# Altium integrated library Linear Technology Power Management Switching Regulator LTC1174-LTC3901.IntLib: 2647 symbols (part 35 of 364)
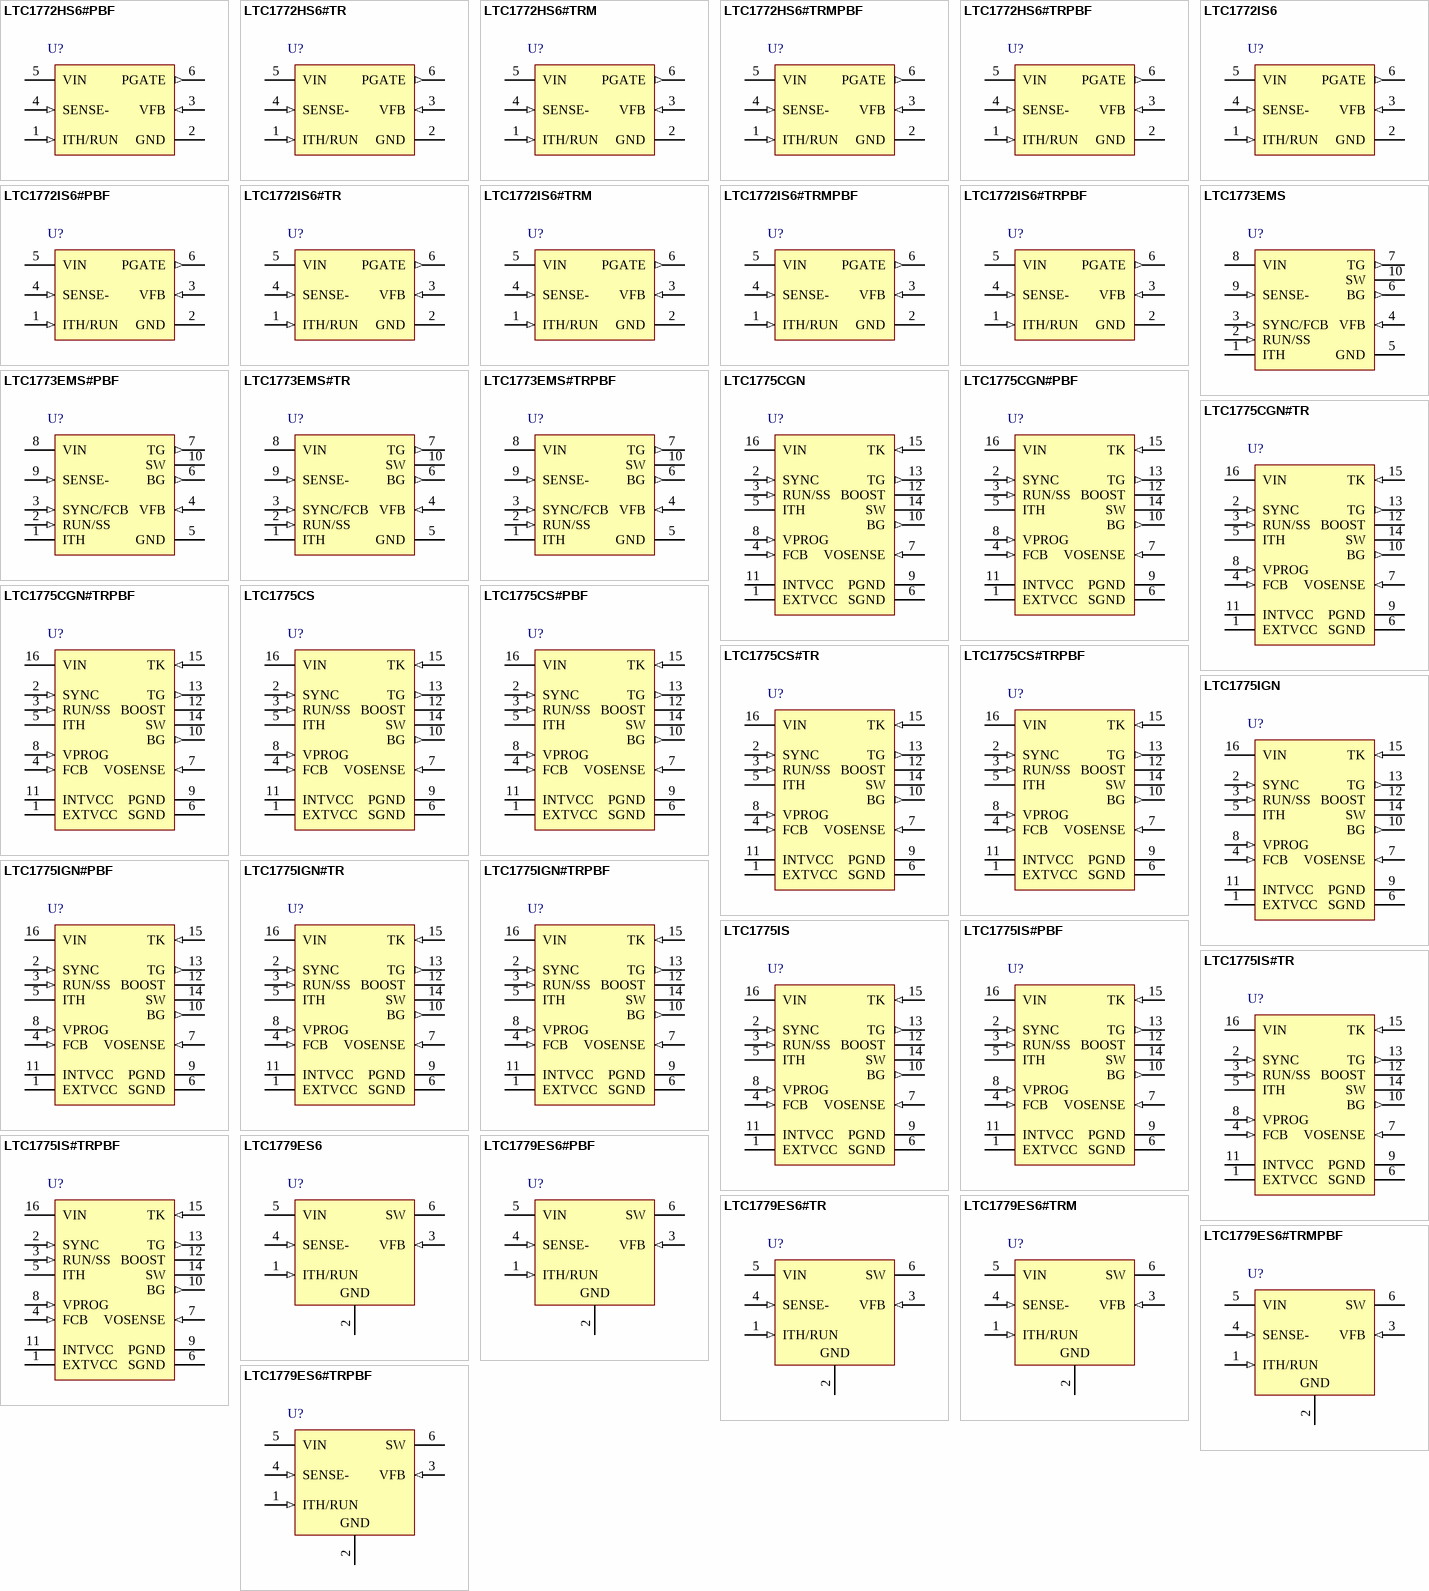
[diagram p233: symbols LTC1772HS6#PBF to LTC1779ES6#TRPBF]

## LTC1775CS#TR
designator U?
High Power No Rsense(TM) Current Mode Synchronous Step-Down Switching Regulator, 16-pin SOP (S-16), 0 to 70 degC, Tape and Reel; Manufacturer: Linear Technology; PartNumber: LTC1775CS#TR; Frequency Sync Range: 150kHz - 225kHz; Number of Outputs: 1; PackageVersion: Rev. G, 05/2012; PackageReference: S-16; PackageDescription: 16-Pin Plastic Small Outline, Body 9.9 x 3.9 mm, Pitch 1.27 mm; Supplier 1: Digi-Key; Supplier Part Number 1: LTC1775CS#TR-ND; Packing: Tape and Reel; RoHS: FALSE; Mounting Technology: Surface Mount; ComponentLink1Description: Manufacturer URL; ComponentLink1URL: http://www.linear.com/; ComponentLink2Description: Datasheet; ComponentLink2URL: http://cds.linear.com/docs/en/datasheet/1775f.pdf; ComponentLink3Description: Package Specification; ComponentLink3URL: http://cds.linear.com/docs/en/packaging/S16%2005-08-1610%20Rev%20G.pdf
footprint LT-S-16_N (SOP, 16-Leads, Body 10x4mm, Pitch 1.27mm, IPC Medium Density)
footprint LT-S-16_L (SOP, 16-Leads, Body 10x4mm, Pitch 1.27mm, IPC High Density)
footprint LT-S-16_M (SOP, 16-Leads, Body 10x4mm, Pitch 1.27mm, IPC Low Density)
pins: 1 EXTVCC (power) "INTVCC Switch Input. When the EXTVCC voltage is above 4.7V, the switch closes and supplies INTVCC power from EXTVCC. Do not exceed 7V at this pin.", 2 SYNC (in) "Synchronization Input for Internal Oscillator. The oscillator will nominally run at 150kHz when open, 225kHz when tied above 1.2V, and will lock over a 1.5:1 clock frequency range.", 3 RUN/SS (in) "Run Control and Soft Start Input. A capacitor to ground at this pin sets the ramp time to full current output (approximately 1s/uF). Forcing this pin below 1.4V shuts down the device.", 4 FCB (in) "Forced Continuous Input. Tie this pin to ground to force synchronous operation at low load currents, to a resistive divider from the secondary output when using a secondary winding, or to INTVCC to enable Burst Mode (See Datasheet)", 5 ITH "Error Amplifier Compensation Point. The current comparator threshold increases with this control voltage, forcing inductor current to be roughly proportional to VITH. Nominal voltage range for this pin is 0V to 2.4V.", 6 SGND (power) "Signal Ground. Connect to the (-) terminal of COUT.", 7 VOSENSE (in) "Output Voltage Sense. Feedback input from the remotely sensed output voltage or from an external resistive divider across the output.", 8 VPROG (in) "Output Voltage Programming. When VOSENSE is connected to the output, VPROG < 0.8V selects a 3.3V output and VPROG > 3.5V selects a 5V output.Leaving VPROG open allows the output voltage to be set by an external resistive (See Datasheet)", 9 PGND (power) "Driver Power Ground. Connects to the source of the bottom N channel MOSFET, the (-) terminal of CVCC and the (-) terminal of CIN.", 10 BG (out) "Bottom Gate Drive. Drives the gate of the bottom N-channel MOSFET between ground and INTVCC.", 11 INTVCC (power) "Internal 5.2V Regulator Output. The driver and control circuits are powered from this voltage. Decouple this pin to power ground with a minimum of 4.7uF tantalum or other low ESR capacitor.", 12 BOOST "Topside Floating Driver Supply. The (+) terminal of the bootstrap capacitor connects here. This pin swings from a Schottky diode drop below INTVCC to VIN + INTVCC.", 13 TG (out) "Top Gate Drive. Drives the top N-channel MOSFET with a voltage swing equal to INTVCC superimposed on the switch node voltage.", 14 SW "Switch Node. The (-) terminal of the bootstrap capacitor connects here. This pin swings from a diode drop below ground up to VIN.", 15 TK (in) "Top MOSFET Kelvin Sense. MOSFET VDS sensing requires this pin to be routed to the drain of the top MOSFET separately from VIN.", 16 VIN (power) "Main Supply Input. Decouple this pin to ground with an RC filter (1ohm, 0.1uF) for applications above 3A."

## LTC1775CS#TRPBF
designator U?
High Power No Rsense(TM) Current Mode Synchronous Step-Down Switching Regulator, 16-pin SOP (S-16), 0 to 70 degC, Pb-Free, Tape and Reel; Manufacturer: Linear Technology; PartNumber: LTC1775CS#TRPBF; Frequency Sync Range: 150kHz - 225kHz; Number of Outputs: 1; PackageVersion: Rev. G, 05/2012; PackageReference: S-16; PackageDescription: 16-Pin Plastic Small Outline, Body 9.9 x 3.9 mm, Pitch 1.27 mm; Supplier 1: Digi-Key; Supplier Part Number 1: LTC1775CS#TRPBF-ND; Packing: Tape and Reel; RoHS: TRUE; Mounting Technology: Surface Mount; ComponentLink1Description: Manufacturer URL; ComponentLink1URL: http://www.linear.com/; ComponentLink2Description: Datasheet; ComponentLink2URL: http://cds.linear.com/docs/en/datasheet/1775f.pdf; ComponentLink3Description: Package Specification; ComponentLink3URL: http://cds.linear.com/docs/en/packaging/S16%2005-08-1610%20Rev%20G.pdf
footprint LT-S-16_N (SOP, 16-Leads, Body 10x4mm, Pitch 1.27mm, IPC Medium Density)
footprint LT-S-16_L (SOP, 16-Leads, Body 10x4mm, Pitch 1.27mm, IPC High Density)
footprint LT-S-16_M (SOP, 16-Leads, Body 10x4mm, Pitch 1.27mm, IPC Low Density)
pins: 1 EXTVCC (power) "INTVCC Switch Input. When the EXTVCC voltage is above 4.7V, the switch closes and supplies INTVCC power from EXTVCC. Do not exceed 7V at this pin.", 2 SYNC (in) "Synchronization Input for Internal Oscillator. The oscillator will nominally run at 150kHz when open, 225kHz when tied above 1.2V, and will lock over a 1.5:1 clock frequency range.", 3 RUN/SS (in) "Run Control and Soft Start Input. A capacitor to ground at this pin sets the ramp time to full current output (approximately 1s/uF). Forcing this pin below 1.4V shuts down the device.", 4 FCB (in) "Forced Continuous Input. Tie this pin to ground to force synchronous operation at low load currents, to a resistive divider from the secondary output when using a secondary winding, or to INTVCC to enable Burst Mode (See Datasheet)", 5 ITH "Error Amplifier Compensation Point. The current comparator threshold increases with this control voltage, forcing inductor current to be roughly proportional to VITH. Nominal voltage range for this pin is 0V to 2.4V.", 6 SGND (power) "Signal Ground. Connect to the (-) terminal of COUT.", 7 VOSENSE (in) "Output Voltage Sense. Feedback input from the remotely sensed output voltage or from an external resistive divider across the output.", 8 VPROG (in) "Output Voltage Programming. When VOSENSE is connected to the output, VPROG < 0.8V selects a 3.3V output and VPROG > 3.5V selects a 5V output.Leaving VPROG open allows the output voltage to be set by an external resistive (See Datasheet)", 9 PGND (power) "Driver Power Ground. Connects to the source of the bottom N channel MOSFET, the (-) terminal of CVCC and the (-) terminal of CIN.", 10 BG (out) "Bottom Gate Drive. Drives the gate of the bottom N-channel MOSFET between ground and INTVCC.", 11 INTVCC (power) "Internal 5.2V Regulator Output. The driver and control circuits are powered from this voltage. Decouple this pin to power ground with a minimum of 4.7uF tantalum or other low ESR capacitor.", 12 BOOST "Topside Floating Driver Supply. The (+) terminal of the bootstrap capacitor connects here. This pin swings from a Schottky diode drop below INTVCC to VIN + INTVCC.", 13 TG (out) "Top Gate Drive. Drives the top N-channel MOSFET with a voltage swing equal to INTVCC superimposed on the switch node voltage.", 14 SW "Switch Node. The (-) terminal of the bootstrap capacitor connects here. This pin swings from a diode drop below ground up to VIN.", 15 TK (in) "Top MOSFET Kelvin Sense. MOSFET VDS sensing requires this pin to be routed to the drain of the top MOSFET separately from VIN.", 16 VIN (power) "Main Supply Input. Decouple this pin to ground with an RC filter (1ohm, 0.1uF) for applications above 3A."

## LTC1775IGN
designator U?
High Power No Rsense(TM) Current Mode Synchronous Step-Down Switching Regulator, 16-pin SOP (GN-16), -40 to 85 degC; Manufacturer: Linear Technology; PartNumber: LTC1775IGN; Frequency Sync Range: 150kHz - 225kHz; Number of Outputs: 1; PackageVersion: Rev. B, 03/2012; PackageReference: GN-16; PackageDescription: 16-Pin Plastic SSOP, Body 4.9 x 3.9 mm, Pitch 0.635 mm; Supplier 1: Digi-Key; Supplier Part Number 1: LTC1775IGN-ND; RoHS: FALSE; Mounting Technology: Surface Mount; ComponentLink1Description: Manufacturer URL; ComponentLink1URL: http://www.linear.com/; ComponentLink2Description: Datasheet; ComponentLink2URL: http://cds.linear.com/docs/en/datasheet/1775f.pdf; ComponentLink3Description: Package Specification; ComponentLink3URL: http://cds.linear.com/docs/en/packaging/05081641_B_GN16.pdf
footprint LT-GN-16_N (SOP, 16-Leads, Body 5x4mm, Pitch 0.635mm, IPC Medium Density)
footprint LT-GN-16_L (SOP, 16-Leads, Body 5x4mm, Pitch 0.635mm, IPC High Density)
footprint LT-GN-16_M (SOP, 16-Leads, Body 5x4mm, Pitch 0.635mm, IPC Low Density)
pins: 1 EXTVCC (power) "INTVCC Switch Input. When the EXTVCC voltage is above 4.7V, the switch closes and supplies INTVCC power from EXTVCC. Do not exceed 7V at this pin.", 2 SYNC (in) "Synchronization Input for Internal Oscillator. The oscillator will nominally run at 150kHz when open, 225kHz when tied above 1.2V, and will lock over a 1.5:1 clock frequency range.", 3 RUN/SS (in) "Run Control and Soft Start Input. A capacitor to ground at this pin sets the ramp time to full current output (approximately 1s/uF). Forcing this pin below 1.4V shuts down the device.", 4 FCB (in) "Forced Continuous Input. Tie this pin to ground to force synchronous operation at low load currents, to a resistive divider from the secondary output when using a secondary winding, or to INTVCC to enable Burst Mode (See Datasheet)", 5 ITH "Error Amplifier Compensation Point. The current comparator threshold increases with this control voltage, forcing inductor current to be roughly proportional to VITH. Nominal voltage range for this pin is 0V to 2.4V.", 6 SGND (power) "Signal Ground. Connect to the (-) terminal of COUT.", 7 VOSENSE (in) "Output Voltage Sense. Feedback input from the remotely sensed output voltage or from an external resistive divider across the output.", 8 VPROG (in) "Output Voltage Programming. When VOSENSE is connected to the output, VPROG < 0.8V selects a 3.3V output and VPROG > 3.5V selects a 5V output.Leaving VPROG open allows the output voltage to be set by an external resistive (See Datasheet)", 9 PGND (power) "Driver Power Ground. Connects to the source of the bottom N channel MOSFET, the (-) terminal of CVCC and the (-) terminal of CIN.", 10 BG (out) "Bottom Gate Drive. Drives the gate of the bottom N-channel MOSFET between ground and INTVCC.", 11 INTVCC (power) "Internal 5.2V Regulator Output. The driver and control circuits are powered from this voltage. Decouple this pin to power ground with a minimum of 4.7uF tantalum or other low ESR capacitor.", 12 BOOST "Topside Floating Driver Supply. The (+) terminal of the bootstrap capacitor connects here. This pin swings from a Schottky diode drop below INTVCC to VIN + INTVCC.", 13 TG (out) "Top Gate Drive. Drives the top N-channel MOSFET with a voltage swing equal to INTVCC superimposed on the switch node voltage.", 14 SW "Switch Node. The (-) terminal of the bootstrap capacitor connects here. This pin swings from a diode drop below ground up to VIN.", 15 TK (in) "Top MOSFET Kelvin Sense. MOSFET VDS sensing requires this pin to be routed to the drain of the top MOSFET separately from VIN.", 16 VIN (power) "Main Supply Input. Decouple this pin to ground with an RC filter (1ohm, 0.1uF) for applications above 3A."

## LTC1775IGN#PBF
designator U?
High Power No Rsense(TM) Current Mode Synchronous Step-Down Switching Regulator, 16-pin SOP (GN-16), -40 to 85 degC, Pb-Free; Manufacturer: Linear Technology; PartNumber: LTC1775IGN#PBF; Frequency Sync Range: 150kHz - 225kHz; Number of Outputs: 1; PackageVersion: Rev. B, 03/2012; PackageReference: GN-16; PackageDescription: 16-Pin Plastic SSOP, Body 4.9 x 3.9 mm, Pitch 0.635 mm; Supplier 1: Digi-Key; Supplier Part Number 1: LTC1775IGN#PBF-ND; Supplier 2: Farnell; Supplier Part Number 2: 2295014; Supplier 3: Newark; Supplier Part Number 3: 56M3786; RoHS: TRUE; Mounting Technology: Surface Mount; ComponentLink1Description: Manufacturer URL; ComponentLink1URL: http://www.linear.com/; ComponentLink2Description: Datasheet; ComponentLink2URL: http://cds.linear.com/docs/en/datasheet/1775f.pdf; ComponentLink3Description: Package Specification; ComponentLink3URL: http://cds.linear.com/docs/en/packaging/05081641_B_GN16.pdf
footprint LT-GN-16_N (SOP, 16-Leads, Body 5x4mm, Pitch 0.635mm, IPC Medium Density)
footprint LT-GN-16_L (SOP, 16-Leads, Body 5x4mm, Pitch 0.635mm, IPC High Density)
footprint LT-GN-16_M (SOP, 16-Leads, Body 5x4mm, Pitch 0.635mm, IPC Low Density)
pins: 1 EXTVCC (power) "INTVCC Switch Input. When the EXTVCC voltage is above 4.7V, the switch closes and supplies INTVCC power from EXTVCC. Do not exceed 7V at this pin.", 2 SYNC (in) "Synchronization Input for Internal Oscillator. The oscillator will nominally run at 150kHz when open, 225kHz when tied above 1.2V, and will lock over a 1.5:1 clock frequency range.", 3 RUN/SS (in) "Run Control and Soft Start Input. A capacitor to ground at this pin sets the ramp time to full current output (approximately 1s/uF). Forcing this pin below 1.4V shuts down the device.", 4 FCB (in) "Forced Continuous Input. Tie this pin to ground to force synchronous operation at low load currents, to a resistive divider from the secondary output when using a secondary winding, or to INTVCC to enable Burst Mode (See Datasheet)", 5 ITH "Error Amplifier Compensation Point. The current comparator threshold increases with this control voltage, forcing inductor current to be roughly proportional to VITH. Nominal voltage range for this pin is 0V to 2.4V.", 6 SGND (power) "Signal Ground. Connect to the (-) terminal of COUT.", 7 VOSENSE (in) "Output Voltage Sense. Feedback input from the remotely sensed output voltage or from an external resistive divider across the output.", 8 VPROG (in) "Output Voltage Programming. When VOSENSE is connected to the output, VPROG < 0.8V selects a 3.3V output and VPROG > 3.5V selects a 5V output.Leaving VPROG open allows the output voltage to be set by an external resistive (See Datasheet)", 9 PGND (power) "Driver Power Ground. Connects to the source of the bottom N channel MOSFET, the (-) terminal of CVCC and the (-) terminal of CIN.", 10 BG (out) "Bottom Gate Drive. Drives the gate of the bottom N-channel MOSFET between ground and INTVCC.", 11 INTVCC (power) "Internal 5.2V Regulator Output. The driver and control circuits are powered from this voltage. Decouple this pin to power ground with a minimum of 4.7uF tantalum or other low ESR capacitor.", 12 BOOST "Topside Floating Driver Supply. The (+) terminal of the bootstrap capacitor connects here. This pin swings from a Schottky diode drop below INTVCC to VIN + INTVCC.", 13 TG (out) "Top Gate Drive. Drives the top N-channel MOSFET with a voltage swing equal to INTVCC superimposed on the switch node voltage.", 14 SW "Switch Node. The (-) terminal of the bootstrap capacitor connects here. This pin swings from a diode drop below ground up to VIN.", 15 TK (in) "Top MOSFET Kelvin Sense. MOSFET VDS sensing requires this pin to be routed to the drain of the top MOSFET separately from VIN.", 16 VIN (power) "Main Supply Input. Decouple this pin to ground with an RC filter (1ohm, 0.1uF) for applications above 3A."